# EAGLE library part M2106_C (library 000001)
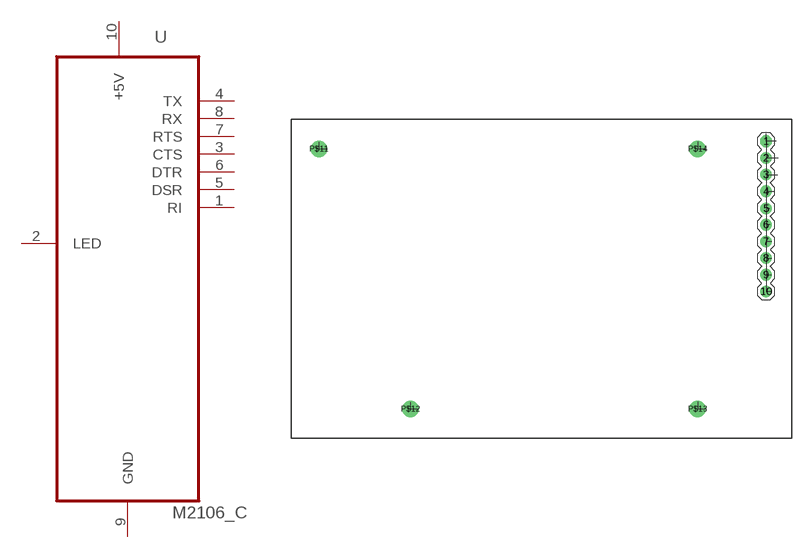
[diagram p86: symbol with the pads of PIG_INT; footprint PIG_INT]

Designator prefix -

## M2106_CG  [PIG_INT]
1  RI  out
2  LED  out
3  CTS  out
4  TX  in
5  DSR  out
6  DTR  in
7  RTS  in
8  RX  out
9  GND  pwr
10  +5V  pwr

## Footprint PIG_INT (pad centres in mm)
drill 0.5 pad 1.778 octagon: 1 28.131,3.239
drill 0.5 pad 1.778 round: 2 28.131,0.699; 3 28.131,-1.841; 4 28.131,-4.381; 5 28.131,-6.985; 6 28.131,-9.461; 7 28.131,-12.002; 8 28.131,-14.541; 9 28.131,-17.081; 10 28.131,-19.622
drill 0.5 pad 2.54 round: P$11 -39.957,2.085; P$12 -26.022,-37.518; P$13 17.704,-37.516; P$14 17.704,2.085